# Altium footprint library FootprintLib.PcbLib: 194 footprints (part 2 of 13)
Each footprint in its own frame and in the unit in brackets; x right, y up, seen from the top. Pads: shape width x height; smd on the part's side, far side on the other; paste and mask are expansions set on the pad; w line width, h text height; cw(c..) or ccw(c..) is an arc to the next point about the centre after c.
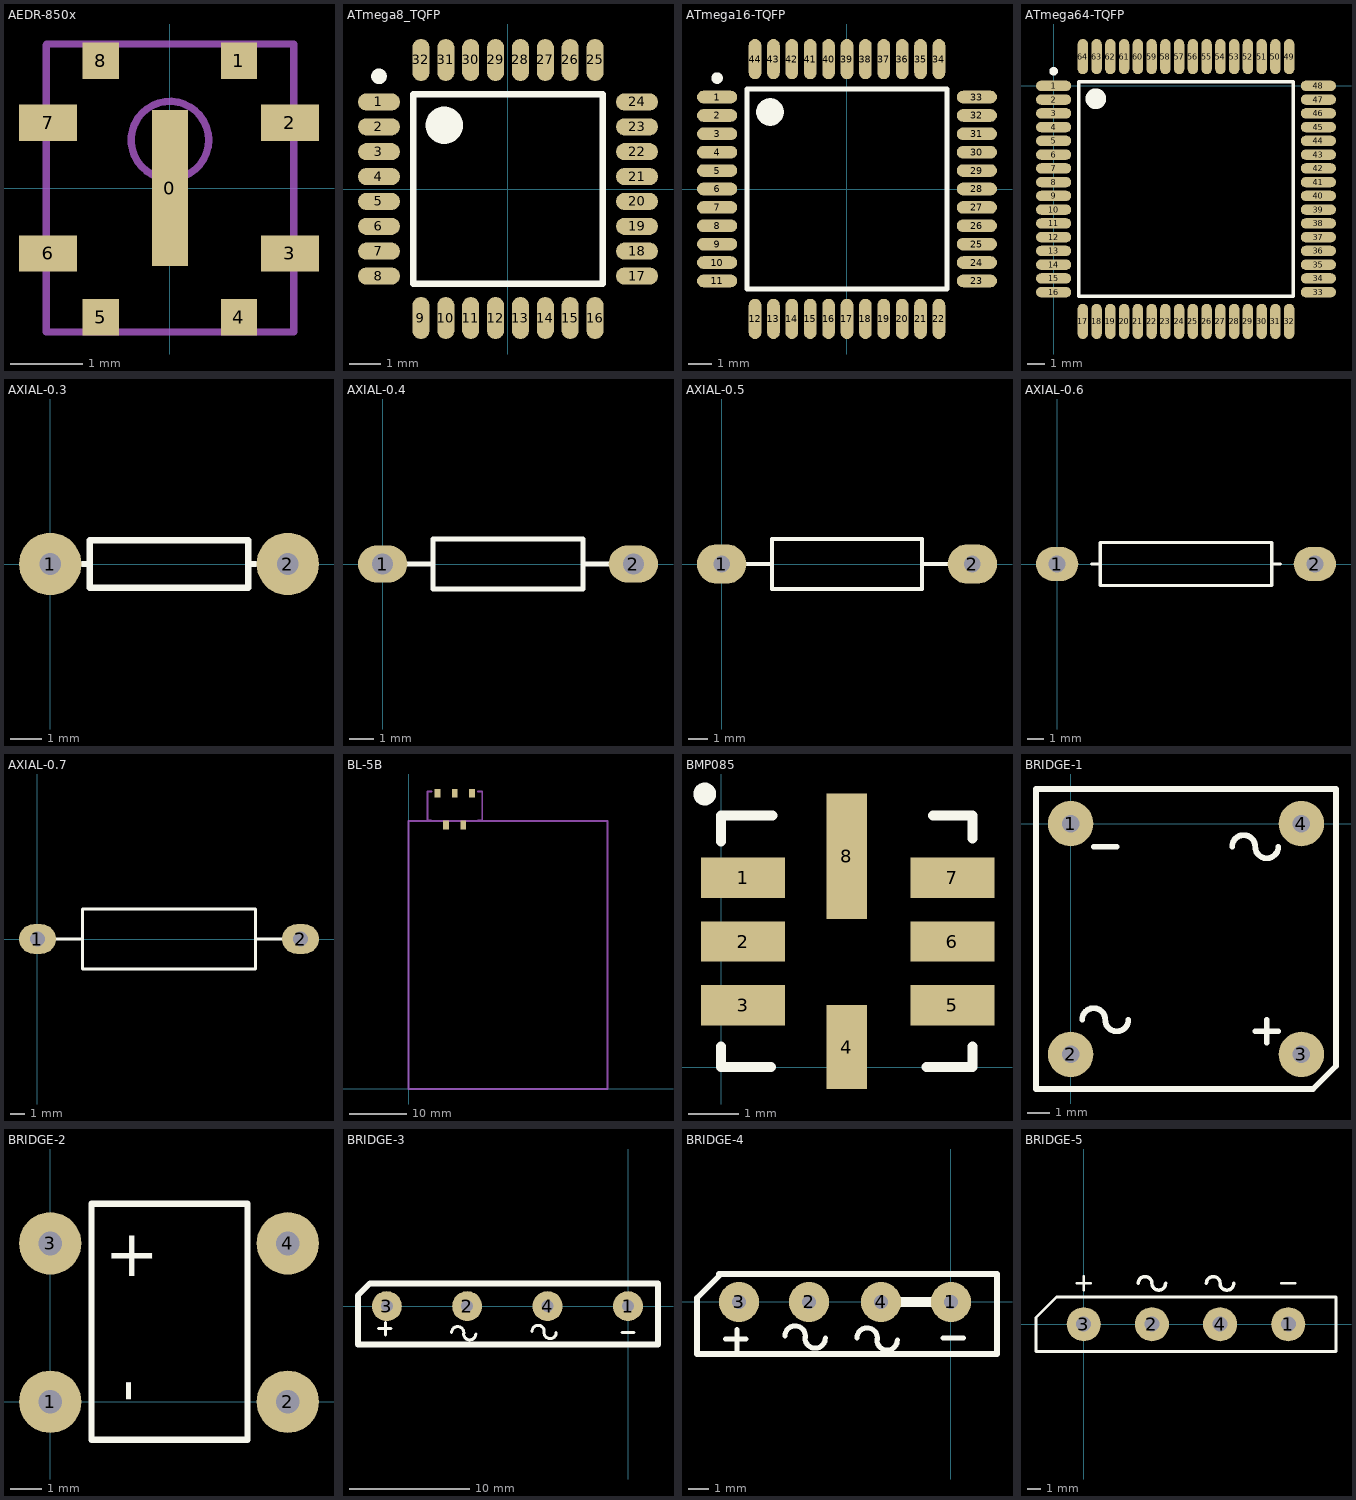
[diagram p1: the footprints below, top view; thin cyan lines are the x and y axes]

## AEDR-850x [mm]
height 1
pads (9):
  rect 0.5x2.15 smd: 0(0,0)
  rect 0.5x0.5 smd: 1(0.95,1.753) 4(0.95,-1.778) 5(-0.95,-1.778) 8(-0.95,1.753)
  rect 0.8x0.5 smd: 2(1.651,0.9) 3(1.651,-0.9) 6(-1.676,-0.9) 7(-1.676,0.9)
Mechanical 1:
  lines w0.1: -1.702,-1.981 -1.702,1.969 ; -1.698,-1.981 1.702,-1.981 ; -1.698,1.981 1.702,1.981 1.702,-1.969
Mechanical 15:
  circle w0.1: c0,0.66 r0.533

## ATmega8_TQFP [mm] "Thin QFP, 32-Leads, Body 7x7mm, Pitch 0.8mm, IPC High Density"
height 1.2
pads (32):
  oval 1.35x0.55 smd: 1(-4.15,2.8) 2(-4.15,2) 3(-4.15,1.2) 4(-4.15,0.4) 5(-4.15,-0.4) 6(-4.15,-1.2) 7(-4.15,-2) 8(-4.15,-2.8) 17(4.15,-2.8) 18(4.15,-2) 19(4.15,-1.2) 20(4.15,-0.4) 21(4.15,0.4) 22(4.15,1.2) 23(4.15,2) 24(4.15,2.8)
  oval 0.55x1.35 smd: 9(-2.8,-4.15) 10(-2,-4.15) 11(-1.2,-4.15) 12(-0.4,-4.15) 13(0.4,-4.15) 14(1.2,-4.15) 15(2,-4.15) 16(2.8,-4.15) 25(2.8,4.15) 26(2,4.15) 27(1.2,4.15) 28(0.4,4.15) 29(-0.4,4.15) 30(-1.2,4.15) 31(-2,4.15) 32(-2.8,4.15)
Top Overlay:
  circle w0.6: c-2.05,2.05 r0.3
  circle w0.25: c-4.15,3.625 r0.125
  lines w0.2: -3.05,-3.05 3.05,-3.05 3.05,3.05 -3.05,3.05 -3.05,-3.05

## ATmega16-TQFP [mm] "Thin QFP, 44-Leads, Body 10x10mm, Pitch 0.8mm, IPC Medium Density"
height 1.2
pads (44):
  oval 1.75x0.55 smd: 1(-5.65,4) 2(-5.65,3.2) 3(-5.65,2.4) 4(-5.65,1.6) 5(-5.65,0.8) 6(-5.65,0) 7(-5.65,-0.8) 8(-5.65,-1.6) 9(-5.65,-2.4) 10(-5.65,-3.2) 11(-5.65,-4) 23(5.65,-4) 24(5.65,-3.2) 25(5.65,-2.4) 26(5.65,-1.6) 27(5.65,-0.8) 28(5.65,0) 29(5.65,0.8) 30(5.65,1.6) 31(5.65,2.4) 32(5.65,3.2) 33(5.65,4)
  oval 0.55x1.75 smd: 12(-4,-5.65) 13(-3.2,-5.65) 14(-2.4,-5.65) 15(-1.6,-5.65) 16(-0.8,-5.65) 17(0,-5.65) 18(0.8,-5.65) 19(1.6,-5.65) 20(2.4,-5.65) 21(3.2,-5.65) 22(4,-5.65) 34(4,5.65) 35(3.2,5.65) 36(2.4,5.65) 37(1.6,5.65) 38(0.8,5.65) 39(0,5.65) 40(-0.8,5.65) 41(-1.6,5.65) 42(-2.4,5.65) 43(-3.2,5.65) 44(-4,5.65)
Top Overlay:
  circle w0.25: c-5.65,4.825 r0.125
  circle w0.6: c-3.35,3.35 r0.3
  lines w0.2: -4.35,-4.35 -4.35,4.35 4.35,4.35 4.35,-4.35 -4.35,-4.35

## ATmega64-TQFP [mm] "Thin QFP, 64-Leads, Body 14x14mm, Pitch 0.8mm, IPC Low Density"
height 1.2
pads (64):
  oval 2.05x0.6 smd: 1(0,0) 2(0,-0.8) 3(0,-1.6) 4(0,-2.4) 5(0,-3.2) 6(0,-4) 7(0,-4.8) 8(0,-5.6) 9(0,-6.4) 10(0,-7.2) 11(0,-8) 12(0,-8.8) 13(0,-9.6) 14(0,-10.4) 15(0,-11.2) 16(0,-12) 33(15.4,-12) 34(15.4,-11.2) 35(15.4,-10.4) 36(15.4,-9.6) 37(15.4,-8.8) 38(15.4,-8) 39(15.4,-7.2) 40(15.4,-6.4) 41(15.4,-5.6) 42(15.4,-4.8) 43(15.4,-4) 44(15.4,-3.2) 45(15.4,-2.4) 46(15.4,-1.6) 47(15.4,-0.8) 48(15.4,0)
  oval 0.6x2.05 smd: 17(1.7,-13.7) 18(2.5,-13.7) 19(3.3,-13.7) 20(4.1,-13.7) 21(4.9,-13.7) 22(5.7,-13.7) 23(6.5,-13.7) 24(7.3,-13.7) 25(8.1,-13.7) 26(8.9,-13.7) 27(9.7,-13.7) 28(10.5,-13.7) 29(11.3,-13.7) 30(12.1,-13.7) 31(12.9,-13.7) 32(13.7,-13.7) 49(13.7,1.7) 50(12.9,1.7) 51(12.1,1.7) 52(11.3,1.7) 53(10.5,1.7) 54(9.7,1.7) 55(8.9,1.7) 56(8.1,1.7) 57(7.3,1.7) 58(6.5,1.7) 59(5.7,1.7) 60(4.9,1.7) 61(4.1,1.7) 62(3.3,1.7) 63(2.5,1.7) 64(1.7,1.7)
Top Overlay:
  circle w0.25: c0,0.85 r0.125
  circle w0.6: c2.45,-0.75 r0.3
  lines w0.2: 1.45,-12.25 1.45,0.25 13.95,0.25 13.95,-12.25 1.45,-12.25

## AXIAL-0.3 [mm]
pads (2):
  round 2 hole 0.7: 1(0,0) 2(7.62,0)
Top Overlay:
  lines w0.2: 1.041,0 1.27,0 ; 6.579,0 6.35,0 ; 6.35,0 6.35,-0.762 1.27,-0.762 1.27,0.762 6.35,0.762 6.35,0

## AXIAL-0.4 [mm]
pads (2):
  oval 2x1.5 hole 0.85: 1(0,0) 2(10.16,0)
Top Overlay:
  lines w0.2: 1.016,0 2.032,0 ; 8.128,0 9.144,0 ; 2.032,-1.016 2.032,1.016 8.128,1.016 8.128,-1.016 2.032,-1.016

## AXIAL-0.5 [mm]
pads (2):
  oval 2.5x2 hole 0.85: 1(0,0) 2(12.7,0)
Top Overlay:
  lines w0.2: 1.016,0 2.54,0 ; 10.16,0 11.684,0 ; 2.54,-1.27 10.16,-1.27 10.16,1.27 2.54,1.27 2.54,-1.27

## AXIAL-0.6 [mm]
pads (2):
  oval 2.5x2 hole 1: 1(0,0) 2(15.24,0)
Top Overlay:
  lines w0.2: 2.032,0 2.54,0 ; 12.7,0 13.208,0 ; 2.54,-1.27 2.54,1.27 12.7,1.27 12.7,-1.27 2.54,-1.27

## AXIAL-0.7 [mm]
pads (2):
  oval 2.5x2 hole 1: 1(0,0) 2(17.78,0)
Top Overlay:
  lines w0.2: 1.27,0 3.048,0 ; 14.732,0 16.51,0 ; 3.048,-2.032 14.732,-2.032 14.732,2.032 3.048,2.032 3.048,-2.032

## BL-5B [mm]
height 6
pads (5):
  rect 1x1.5 smd: 0(6.5,45.8) 0(9.5,45.8) 1(5,51.3) 2(8,51.3) 3(11,51.3)
Mechanical 1:
  lines w0.3: 3.9,46.6 3.3,46.6 3.3,51.6 4,51.6 ; 12,46.6 12.8,46.6 12.8,51.6 12,51.6 ; 0,0 0,46.5 34.5,46.5 34.5,0 0,0
  text "BL-5B" at 10.668,37.211 h5

## BMP085 [mm]
height 1.2
pads (8):
  rect 1.67x0.8 smd: 1(0.435,3.77) 2(0.435,2.5) 3(0.435,1.23) 5(4.6,1.23) 6(4.6,2.5) 7(4.6,3.77)
  rect 0.8x1.67 smd: 4(2.5,0.4)
  rect 0.8x2.5 smd: 8(2.5,4.2)
Top Overlay:
  circle w0.254: c-0.329,5.436 r0.1
  lines w0.2: 0,0.406 0,0 0.991,0 ; 0,4.496 0,5.004 1.016,5.004 ; 4.089,0 5.004,0 5.004,0.406 ; 4.216,5.004 5.004,5.004 5.004,4.547

## BRIDGE-1 [mm]
pads (4):
  round 2 hole 0.762: 1(0,0) 2(0,-10.16) 3(10.16,-10.16) 4(10.16,0)
Top Overlay:
  lines w0.254: 0.508,-8.636 cw(c1.016,-8.636) 1.524,-8.636 ccw(c2.032,-8.636) 2.54,-8.636 ; 1.016,-1.016 2.032,-1.016 ; 7.112,-1.016 cw(c7.62,-1.016) 8.128,-1.016 ccw(c8.636,-1.016) 9.144,-1.016 ; 8.128,-9.144 9.144,-9.144 ; 8.636,-9.652 8.636,-8.636 ; -1.524,-11.684 10.668,-11.684 11.684,-10.668 11.684,1.524 -1.524,1.524 -1.524,-11.684

## BRIDGE-2 [mm]
pads (4):
  round 2 hole 0.762: 1(0,0) 2(7.62,0) 3(0,5.08) 4(7.62,5.08)
Top Overlay:
  lines w0.2: 6.325,6.325 6.325,-1.219 1.321,-1.219 1.321,6.35 6.325,6.35
  text "-" at 3.088,0.729 h1.52
  text "+" at 1.742,5.326 h1.52

## BRIDGE-3 [mm]
pads (4):
  round 2.5 hole 1: 1(0,0) 2(-13.4,0) 3(-20.1,0) 4(-6.7,0)
Top Overlay:
  lines w0.254: -20.776,-1.86 -19.76,-1.86 ; -20.2,-2.39 -20.2,-1.374 ; -14.7,-2.2 cw(c-14.192,-2.2) -13.688,-2.264 ; -13.7,-2.3 ccw(c-13.192,-2.3) -12.684,-2.3 ; -8,-2.1 cw(c-7.492,-2.1) -6.988,-2.164 ; -7,-2.2 ccw(c-6.492,-2.2) -5.984,-2.2 ; -0.516,-2.2 0.5,-2.2
  lines w0.5: -22.5,0.9 -21.5,1.9 2.5,1.9 2.5,-3.2 -22.5,-3.2 ; -22.5,-3.2 -22.5,0.879 -22.5,-3.2 ; -21.1,1.9 -21.1,1.9

## BRIDGE-4 [mm]
pads (4):
  round 2 hole 0.7: 1(0,0) 2(-7.1,0) 3(-10.6,0) 4(-3.5,0)
Top Overlay:
  lines w0.254: -11.276,-1.86 -10.26,-1.86 ; -10.7,-2.39 -10.7,-1.374 ; -8.3,-1.7 cw(c-7.792,-1.7) -7.288,-1.764 ; -7.3,-1.8 ccw(c-6.792,-1.8) -6.284,-1.8 ; -4.7,-1.8 cw(c-4.192,-1.8) -3.688,-1.864 ; -3.7,-1.9 ccw(c-3.192,-1.9) -2.684,-1.9 ; -0.4,-1.8 0.616,-1.8
  lines w0.3: -11.6,1.4 2.3,1.4 2.3,-2.6 -12.7,-2.6 -12.7,0 -12.7,0.2 -11.5,1.4
  lines w0.5: -3.5,0 0,0

## BRIDGE-5 [mm]
pads (4):
  round 2.5 hole 1.1: 1(15,0) 2(5,0) 3(0,0) 4(10,0)
Top Overlay:
  lines w0.2: -0.5,3 0.5,3 0,3 0,3.5 0,2.5 ; 14.5,3 15.5,3 ; -3.5,0.5 -2,2 ; -3.5,0.5 -3.5,-2 18.5,-2 18.5,2 -2,2 ; -3.5,0.5 -2,2 ; -2,2 -2,2
  lines w0.254: 4,3 cw(c4.5,3) 5,3 ccw(c5.5,3) 6,3 ; 9,3 cw(c9.5,3) 10,3 ccw(c10.5,3) 11,3